# Altium footprint library 26.9X13X2.2_BOARD.PcbLib: 1 footprints
Each footprint in its own frame and in the unit in brackets; x right, y up, seen from the top. Pads: shape width x height; smd on the part's side, far side on the other; paste and mask are expansions set on the pad; w line width, h text height; cw(c..) or ccw(c..) is an arc to the next point about the centre after c.
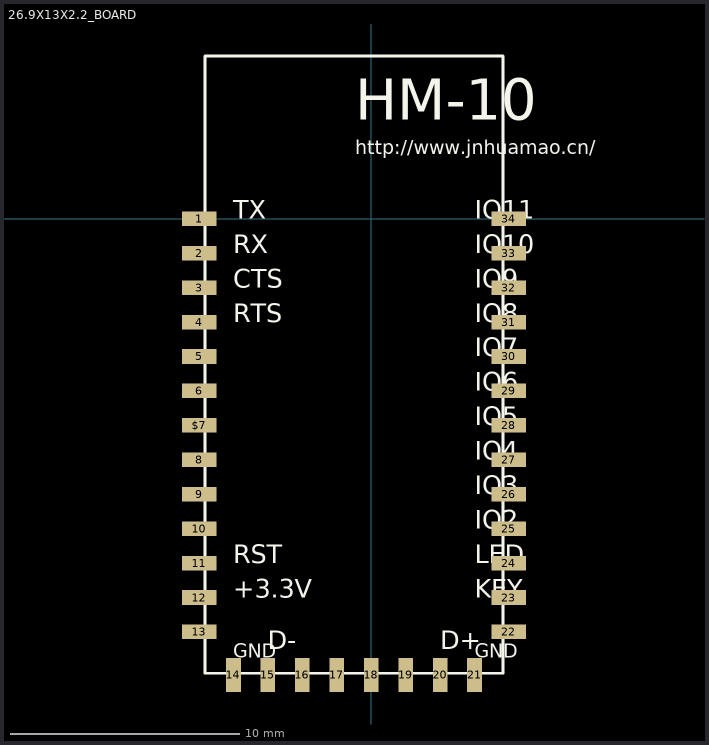
[diagram p0: the footprint, top view; thin cyan lines are the x and y axes]

## 26.9X13X2.2_BOARD [mm]
pads (34):
  rect 1.5x0.635 smd: 1(-7.5,0) 2(-7.5,-1.5) 3(-7.5,-3) 4(-7.5,-4.5) 5(-7.5,-6) 6(-7.5,-7.5) 8(-7.5,-10.5) 9(-7.5,-12) 10(-7.5,-13.5) 11(-7.5,-15) 12(-7.5,-16.5) 13(-7.5,-18) 22(6,-18) 23(6,-16.5) 24(6,-15) 25(6,-13.5) 26(6,-12) 27(6,-10.5) 28(6,-9) 29(6,-7.5) 30(6,-6) 31(6,-4.5) 32(6,-3) 33(6,-1.5) 34(6,0) $7(-7.5,-9)
  rect 0.635x1.5 smd: 14(-6,-19.875) 15(-4.5,-19.875) 16(-3,-19.875) 17(-1.5,-19.875) 18(0,-19.875) 19(1.5,-19.875) 20(3,-19.875) 21(4.5,-19.875)
Top Overlay:
  lines w0.127: -7.25,-19.8 -7.25,7.1 5.75,7.1 5.75,-19.8 -7.25,-19.8
  text "HM-10" at -0.69,4.32 h1.78
  text "IO11" at 4.5,0 h0.81
  text "IO10" at 4.5,-1.5 h0.81
  text "IO9" at 4.5,-3 h0.81
  text "IO8" at 4.5,-4.5 h0.81
  text "IO7" at 4.5,-6 h0.81
  text "IO6" at 4.5,-7.5 h0.81
  text "IO5" at 4.5,-9 h0.81
  text "IO4" at 4.5,-10.5 h0.81
  text "IO3" at 4.5,-12 h0.81
  text "IO2" at 4.5,-13.5 h0.81
  text "LED" at 4.5,-15 h0.81
  text "KEY" at 4.5,-16.5 h0.81
  text "GND" at 4.5,-19.125 h0.61
  text "D+" at 3,-18.75 h0.81
  text "D-" at -4.5,-18.75 h0.81
  text "GND" at -6,-19.125 h0.61
  text "+3.3V" at -6,-16.5 h0.81
  text "RST" at -6,-15 h0.81
  text "RTS" at -6,-4.5 h0.81
  text "CTS" at -6,-3 h0.81
  text "RX" at -6,-1.5 h0.81
  text "TX" at -6,0 h0.81
  text "http://www.jnhuamao.cn/" at -0.69,2.82 h0.61
3D body "step_temp.STEP": height 2.2, standoff 0, extent -7.262,-19.8 5.738,7.1